# EAGLE library part ADAFRUIT_MCP73871 (library ForestVisionParts)
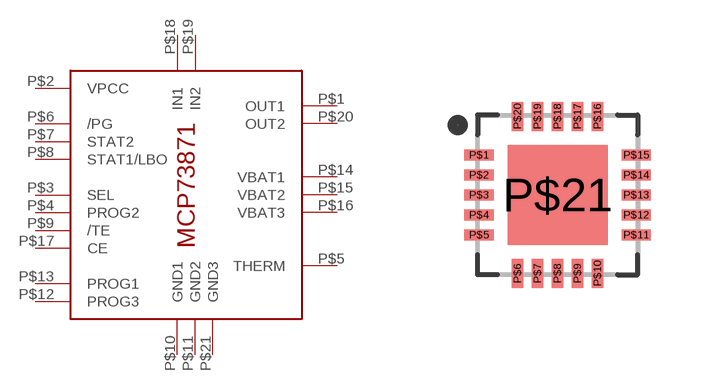
[diagram p1: symbol with the pads of ADAFRUIT_QFN20_4MM; footprint ADAFRUIT_QFN20_4MM]

Designator prefix IC

## ADAFRUIT_MCP73871  [ADAFRUIT_QFN20_4MM]
P$1  OUT1  out
P$2  VPCC  in
P$3  SEL  in
P$4  PROG2  in
P$5  THERM  in
P$6  /PG  out
P$7  STAT2  out
P$8  STAT1/LBO  out
P$9  /TE  in
P$10  GND1  pwr
P$11  GND2  pwr
P$12  PROG3  in
P$13  PROG1  in
P$14  VBAT1  out
P$15  VBAT2  out
P$16  VBAT3  out
P$17  CE  in
P$18  IN1  in
P$19  IN2  in
P$20  OUT2  out
P$21  GND3  pwr

## Footprint ADAFRUIT_QFN20_4MM (pad centres in mm)
20-Lead QFN 4x4mm Body, 0.5mm pitch Source: http://ww1.microchip.com/downloads/en/DeviceDoc/22090b.pdf
smd 0.73 x 0.28: P$1 -1.965,1; P$2 -1.965,0.5; P$3 -1.965,0; P$4 -1.965,-0.5; P$5 -1.965,-1; P$11 1.965,-1; P$12 1.965,-0.5; P$13 1.965,0; P$14 1.965,0.5; P$15 1.965,1
smd 0.28 x 0.73: P$6 -1,-1.965; P$7 -0.5,-1.965; P$8 0,-1.965; P$9 0.5,-1.965; P$10 1,-1.965; P$16 1,1.965; P$17 0.5,1.965; P$18 0,1.965; P$19 -0.5,1.965; P$20 -1,1.965
smd 2.5 x 2.5: P$21 0,0